# EAGLE library part A4982SLPTR-T (library Allegro_By_element14_Batch_1)
DMOS Microstepping Driver with Translator and Overcurrent Protection
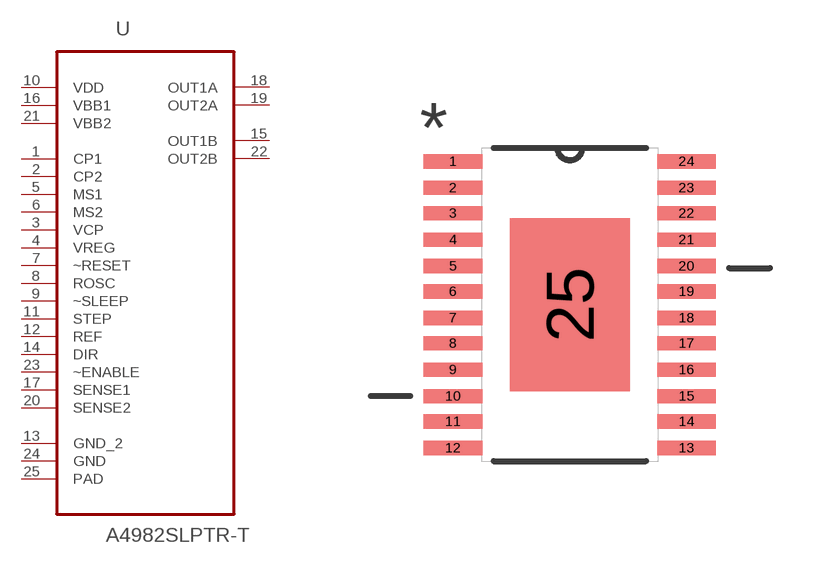
[diagram p7: symbol with the pads of SOP65P640X120-25N; footprint SOP65P640X120-25N]

Designator prefix U

## A4982SLPTR-T (MPN: A4982SLPTR-T; OC_FARNELL: -; OC_NEWARK: 67R9668; PACKAGE: TSSOP-24; SUPPLIER: Allegro)  [SOP65P640X120-25N]
1  CP1  pas
2  CP2  pas
3  VCP  pas
4  VREG  pas
5  MS1  in
6  MS2  in
7  ~RESET  in
8  ROSC  in
9  ~SLEEP  in
10  VDD  pwr
11  STEP  in
12  REF  in
13  GND_2  pas
14  DIR  in
15  OUT1B  out
16  VBB1  pwr
17  SENSE1  in
18  OUT1A  out
19  OUT2A  out
20  SENSE2  in
21  VBB2  pwr
22  OUT2B  out
23  ~ENABLE  in
24  GND  pas
25  PAD  pas

## Footprint SOP65P640X120-25N (pad centres in mm)
smd 1.473 x 0.356: 1 -2.921,3.581; 2 -2.921,2.921; 3 -2.921,2.286; 4 -2.921,1.626; 5 -2.921,0.965; 6 -2.921,0.33; 7 -2.921,-0.33; 8 -2.921,-0.965; 9 -2.921,-1.626; 10 -2.921,-2.286; 11 -2.921,-2.921; 12 -2.921,-3.581; 13 2.921,-3.581; 14 2.921,-2.921; 15 2.921,-2.286; 16 2.921,-1.626; 17 2.921,-0.965; 18 2.921,-0.33; 19 2.921,0.33; 20 2.921,0.965; 21 2.921,1.626; 22 2.921,2.286; 23 2.921,2.921; 24 2.921,3.581
smd 2.997 x 4.318: 25 0,0